# Altium schematic symbol library SM04B-SRSS-TB.SchLib: 1 symbol
Pins are listed as number, name and electrical type; pins without a type are passive.

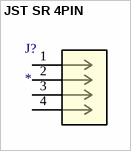
[diagram p0: symbol JST SR 4PIN]

## JST SR 4PIN
designator J?
SM04B-SRSS-TB; Mfr_Name: JST; RefDes: RefDes; Type: Type
footprint JST SR 4PIN (CONN_SM04B-SRSS-TB_JST)
pins: 1, 2, 3, 4